# Altium footprint library FPC31.PcbLib: 1 footprints
Each footprint in its own frame and in the unit in brackets; x right, y up, seen from the top. Pads: shape width x height; smd on the part's side, far side on the other; paste and mask are expansions set on the pad; w line width, h text height; cw(c..) or ccw(c..) is an arc to the next point about the centre after c.
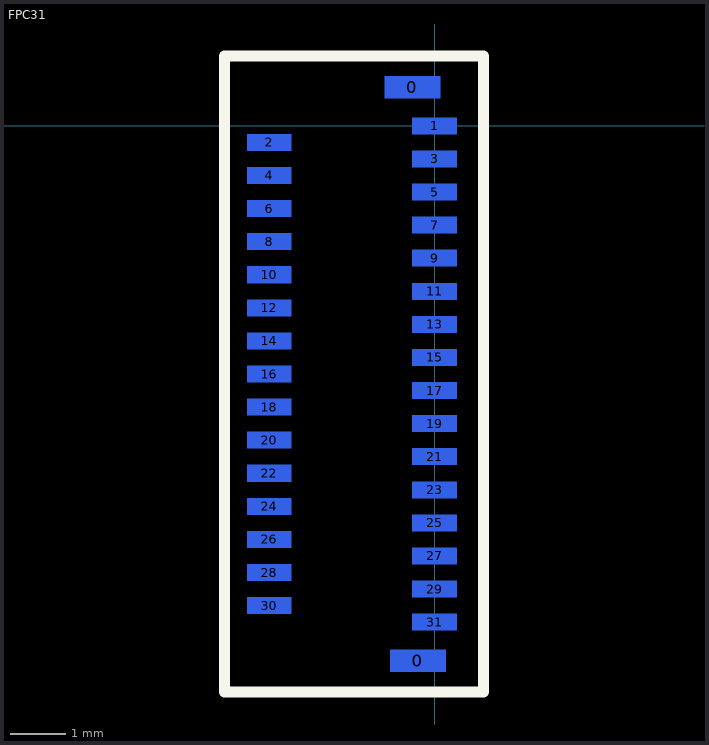
[diagram p0: the footprint, top view; thin cyan lines are the x and y axes]

## FPC31 [mm]
pads (33):
  rect 1x0.4 smd far side: 0(-0.4,0.7) 0(-0.3,-9.7)
  rect 0.8x0.3 smd far side: 1(0,0) 2(-3,-0.3) 3(0,-0.6) 4(-3,-0.9) 5(0,-1.2) 6(-3,-1.5) 7(0,-1.8) 8(-3,-2.1) 9(0,-2.4) 10(-3,-2.7) 11(0,-3) 12(-3,-3.3) 13(0,-3.6) 14(-3,-3.9) 15(0,-4.2) 16(-3,-4.5) 17(0,-4.8) 18(-3,-5.1) 19(0,-5.4) 20(-3,-5.7) 21(0,-6) 22(-3,-6.3) 23(0,-6.6) 24(-3,-6.9) 25(0,-7.2) 26(-3,-7.5) 27(0,-7.8) 28(-3,-8.1) 29(0,-8.4) 30(-3,-8.7) 31(0,-9)
Top Overlay:
  lines w0.2: -3.81,-10.27 0.889,-10.27 0.889,1.27 -3.81,1.27 -3.81,-10.27